# EAGLE library part 74*125 (library 74xx-eu)
Quad bus BUFFER, 3-state
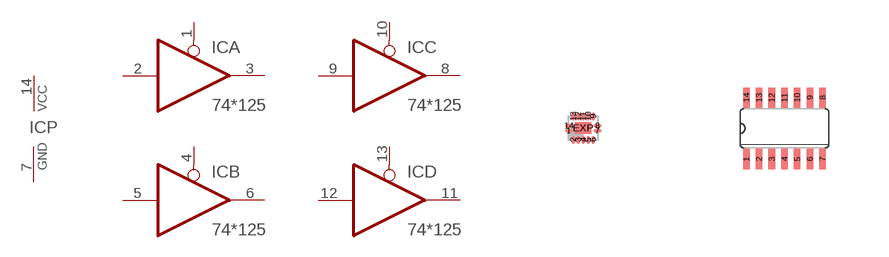
[diagram p83: symbol with the pads of DHVQFN14; footprints DHVQFN14, SO14]

Designator prefix IC; gates A=74125 B=74125 C=74125 D=74125 P=PWRN

## 74125BQ, 74ABT125BQ  [DHVQFN14]
1  A:OE  in
2  A:I  in
3  A:O  hiz
4  B:OE  in
5  B:I  in
6  B:O  hiz
7  P:GND  pwr
8  C:O  hiz
9  C:I  in
10  C:OE  in
11  D:O  hiz
12  D:I  in
13  D:OE  in
14  P:VCC  pwr

## 74125D, 74AC125D, 74ACT125D, 74HC125D, 74HCT125D, 74LS125D  [SO14]
Pads as for DHVQFN14

## 74125DB, 74ABT125DB  [SSOP14]
Pads as for DHVQFN14

## 74125N, 74AC125N, 74ACT125N, 74HC125N, 74HCT125N, 74LS125N  [DIL14]
Pads as for DHVQFN14

## 74125PW, 74ABT125PW  [TSSOP14]
Pads as for DHVQFN14

## Footprint DHVQFN14 (pad centres in mm)
plastic dual in-line compatible thermal enhanced very thin quad flat package; no leads; 14 terminals; body 2.5 x 3 x 0.85 mm Source: http://www.nxp.com/documents/data_sheet/74ABT125.pdf
smd 0.2 x 0.087: 1 -0.356,-0.062; 7 0.356,-0.062; 8 0.356,0.062; 14 -0.356,0.062
smd 0.087 x 0.2: 2 -0.25,-0.294; 3 -0.125,-0.294; 4 0,-0.294; 5 0.125,-0.294; 6 0.25,-0.294; 9 0.25,0.294; 10 0.125,0.294; 11 0,0.294; 12 -0.125,0.294; 13 -0.25,0.294
smd 0.412 x 0.287: EXP 0,0

## Footprint SO14 (pad centres in mm)
Small Outline package 150 mil
smd 0.165 x 0.508: 1 -0.953,-0.768; 2 -0.635,-0.768; 3 -0.318,-0.768; 4 0,-0.768; 5 0.318,-0.768; 6 0.635,-0.768; 7 0.953,-0.768; 8 0.953,0.768; 9 0.635,0.768; 10 0.318,0.768; 11 0,0.768; 12 -0.318,0.768; 13 -0.635,0.768; 14 -0.953,0.768

## Footprint SSOP14 (pad centres in mm)
plastic shrink small outline package; 14 leads; body width 5.3 mm SOT337-1 Source: http://www.nxp.com/documents/data_sheet/74ABT125.pdf
smd 0.1 x 0.275: 1 -0.487,-0.869; 2 -0.325,-0.869; 3 -0.163,-0.869; 4 0,-0.869; 5 0.163,-0.869; 6 0.325,-0.869; 7 0.487,-0.869; 8 0.487,0.869; 9 0.325,0.869; 10 0.163,0.869; 11 0,0.869; 12 -0.163,0.869; 13 -0.325,0.869; 14 -0.487,0.869

## Footprint DIL14 (pad centres in mm)
Dual In Line Package
drill 0.203 long: 1 -1.905,-0.953; 2 -1.27,-0.953; 3 -0.635,-0.953; 4 0,-0.953; 5 0.635,-0.953; 6 1.27,-0.953; 7 1.905,-0.953; 8 1.905,0.953; 9 1.27,0.953; 10 0.635,0.953; 11 0,0.953; 12 -0.635,0.953; 13 -1.27,0.953; 14 -1.905,0.953

## Footprint TSSOP14 (pad centres in mm)
plastic thin shrink small outline package; 14 leads; body width 4.4 mm SOT402-1 Source: http://www.nxp.com/documents/data_sheet/74ABT125.pdf
smd 0.087 x 0.225: 1 -0.487,-0.731; 2 -0.325,-0.731; 3 -0.163,-0.731; 4 0,-0.731; 5 0.163,-0.731; 6 0.325,-0.731; 7 0.487,-0.731; 8 0.487,0.731; 9 0.325,0.731; 10 0.163,0.731; 11 0,0.731; 12 -0.163,0.731; 13 -0.325,0.731; 14 -0.487,0.731